# EAGLE library part ATMEGA4809 (library PiB_ic_microcontrollers)
Atmega 809 Family Chips Spiritual successor to the general Arduino series chips with various new peripherals and an integrated crystal. Uses a new mux pin swappable pin arrangement.
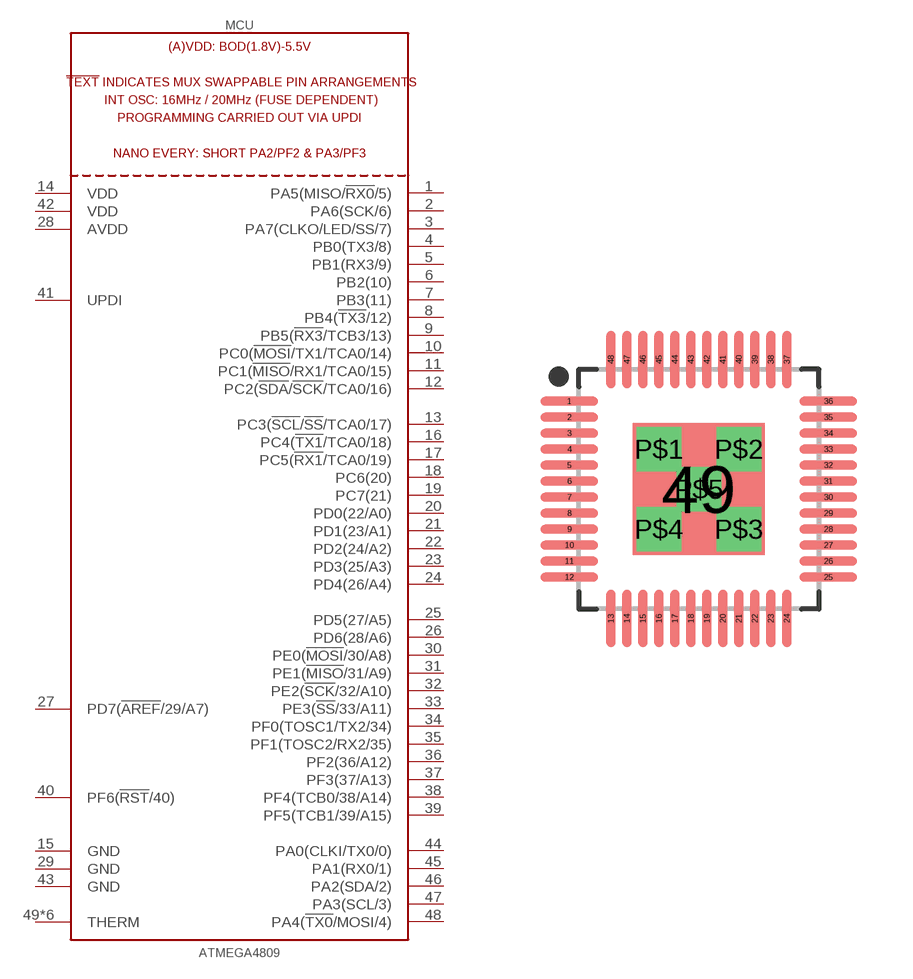
[diagram p9: symbol with the pads of QFN40P600X600X55-49T330M; footprint QFN40P600X600X55-49T330M]

Designator prefix MCU

## ATMEGA4809-MUR (CREATOR: Kenmei; DATASHEET: http://www.microchip.com/mymicrochip/filehandler.aspx?ddocname=en604848; DIST: Digikey; DISTLINK: https://www.digikey.com/product-detail/en/microchip-technology/ATMEGA4809-MUR/150-ATMEGA4809-MURCT-ND/10445018; DISTPN: 150-ATMEGA4809-MURCT-ND; MFR: Microchip Technology; MPN: ATMEGA4809-MUR; VALUE: ATMEGA4809)  [QFN40P600X600X55-49T330M]
1  PA5(MISO/!RX0!/5)
2  PA6(SCK/6)
3  PA7(CLKO/LED/SS/7)
4  PB0(TX3/8)
5  PB1(RX3/9)
6  PB2(10)
7  PB3(11)
8  PB4(!TX3!/12)
9  PB5(!RX3!/TCB3/13)
10  PC0(!MOSI!/TX1/TCA0/14)
11  PC1(!MISO!/RX1/TCA0/15)
12  PC2(!SDA!/!SCK!/TCA0/16)
13  PC3(!SCL!/!SS!/TCA0/17)
14  VDD
15  GND
16  PC4(!TX1!/TCA0/18)
17  PC5(!RX1!/TCA0/19)
18  PC6(20)
19  PC7(21)
20  PD0(22/A0)
21  PD1(23/A1)
22  PD2(24/A2)
23  PD3(25/A3)
24  PD4(26/A4)
25  PD5(27/A5)
26  PD6(28/A6)
27  PD7(!AREF!/29/A7)
28  AVDD
29  GND
30  PE0(!MOSI!/30/A8)
31  PE1(!MISO!/31/A9)
32  PE2(!SCK!/32/A10)
33  PE3(!SS!/33/A11)
34  PF0(TOSC1/TX2/34)
35  PF1(TOSC2/RX2/35)
36  PF2(36/A12)
37  PF3(37/A13)
38  PF4(TCB0/38/A14)
39  PF5(TCB1/39/A15)
40  PF6(!RST!/40)
41  UPDI
42  VDD
43  GND
44  PA0(CLKI/TX0/0)
45  PA1(RX0/1)
46  PA2(SDA/2)
47  PA3(SCL/3)
48  PA4(!TX0!/MOSI/4)
49  THERM
P$1  THERM
P$2  THERM
P$3  THERM
P$4  THERM
P$5  THERM

## Footprint QFN40P600X600X55-49T330M (pad centres in mm)
48-QFN, 0.40 mm pitch, 6.00 X 6.00 X 0.55 mm body, 3.30 X 3.30 mm thermal pad 48-pin QFN package with 0.40 mm pitch with body size 6.00 X 6.00 X 0.55 mm and thermal pad size 3.30 X 3.30 mm
smd 1.437 x 0.22: 1 -3.237,2.2; 2 -3.237,1.8; 3 -3.237,1.4; 4 -3.237,1; 5 -3.237,0.6; 6 -3.237,0.2; 7 -3.237,-0.2; 8 -3.237,-0.6; 9 -3.237,-1; 10 -3.237,-1.4; 11 -3.237,-1.8; 12 -3.237,-2.2; 25 3.237,-2.2; 26 3.237,-1.8; 27 3.237,-1.4; 28 3.237,-1; 29 3.237,-0.6; 30 3.237,-0.2; 31 3.237,0.2; 32 3.237,0.6; 33 3.237,1; 34 3.237,1.4; 35 3.237,1.8; 36 3.237,2.2
smd 0.22 x 1.437: 13 -2.2,-3.237; 14 -1.8,-3.237; 15 -1.4,-3.237; 16 -1,-3.237; 17 -0.6,-3.237; 18 -0.2,-3.237; 19 0.2,-3.237; 20 0.6,-3.237; 21 1,-3.237; 22 1.4,-3.237; 23 1.8,-3.237; 24 2.2,-3.237; 37 2.2,3.237; 38 1.8,3.237; 39 1.4,3.237; 40 1,3.237; 41 0.6,3.237; 42 0.2,3.237; 43 -0.2,3.237; 44 -0.6,3.237; 45 -1,3.237; 46 -1.4,3.237; 47 -1.8,3.237; 48 -2.2,3.237
smd 3.3 x 3.3: 49 0,0
drill 0.6 square: P$1 -1,1; P$2 1,1; P$3 1,-1; P$4 -1,-1; P$5 0,0